# EAGLE library part NX3008PBKS,115 (library CMWC-Product)
Mosfet Array 2 P-Channel (Dual) / 30V 200mA 445mW / Surface Mount 6-TSSOP
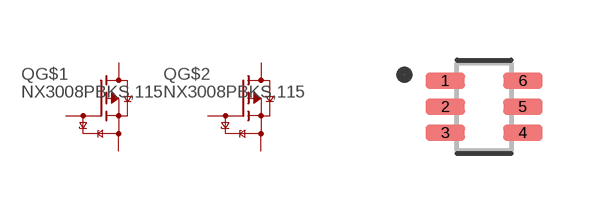
[diagram p3: symbol with the pads of SOT65P210X110-6N; footprint SOT65P210X110-6N]

Designator prefix Q; gates G$1=NX3008PBKS,115_SECTION1 G$2=NX3008PBKS,115_SECTION2

## NX3008PBKS,115 (DIGI-KEY_PART_NUMBER: 1727-1282-1-ND; MF: Nexperia USA; MP: NX3008PBKS,115; PACKAGE: TSSOP6-6 Nexperia USA Inc.; PURCHASE-URL: https://pricing.snapeda.com/search/part/NX3008PBKS,115/?ref=eda)  [SOT65P210X110-6N]
1  G$1:S1  pas
2  G$1:G1  pas
3  G$2:D2  pas
4  G$2:S2  pas
5  G$2:G2  pas
6  G$1:D1  pas

## Footprint SOT65P210X110-6N (pad centres in mm)
smd 0.99 x 0.41: 1 -0.97,0.65; 2 -0.97,0; 3 -0.97,-0.65; 4 0.97,-0.65; 5 0.97,0; 6 0.97,0.65